# Altium footprint library Driver.PcbLib: 19 footprints (part 2 of 2)
Each footprint in its own frame and in the unit in brackets; x right, y up, seen from the top. Pads: shape width x height; smd on the part's side, far side on the other; paste and mask are expansions set on the pad; w line width, h text height; cw(c..) or ccw(c..) is an arc to the next point about the centre after c.
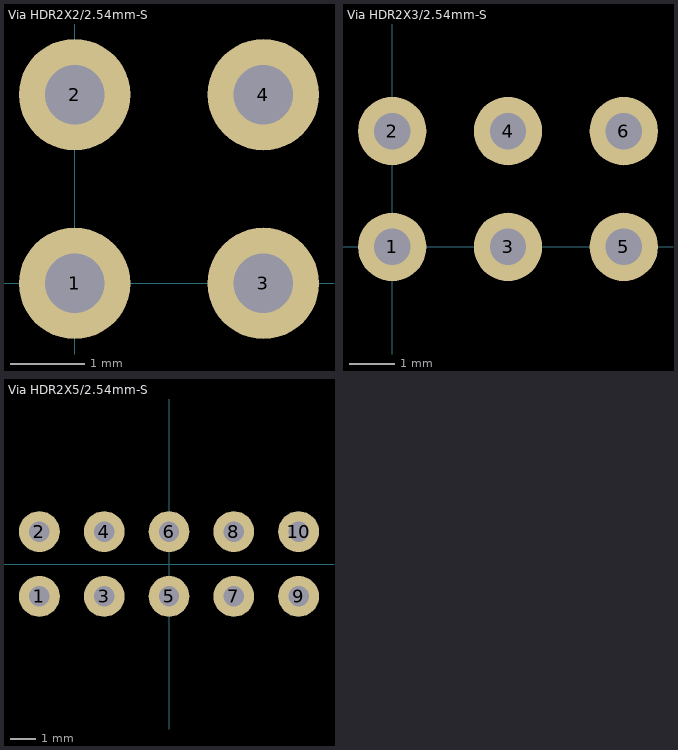
[diagram p1: the footprints below, top view; thin cyan lines are the x and y axes]

## Via HDR2X2/2.54mm-S [mm] "Connector; Header; 3x2 Position"
pads (4):
  round 1.5 hole 0.8: 1(0,0) 2(0,2.54) 3(2.54,0) 4(2.54,2.54)

## Via HDR2X3/2.54mm-S [mm] "Connector; Header; 3x2 Position"
pads (6):
  round 1.5 hole 0.8: 1(0,0) 2(0,2.54) 3(2.54,0) 4(2.54,2.54) 5(5.08,0) 6(5.08,2.54)

## Via HDR2X5/2.54mm-S [mm] "双排排针，5x2脚"
pads (10):
  round 1.6 hole 0.8: 1(-5.08,-1.27) 2(-5.08,1.27) 3(-2.54,-1.27) 4(-2.54,1.27) 5(0,-1.27) 6(0,1.27) 7(2.54,-1.27) 8(2.54,1.27) 9(5.08,-1.27) 10(5.08,1.27)